# Altium schematic symbol library AST0760MCTRQ.SchLib: 2 symbols
Pins are listed as number, name and electrical type; pins without a type are passive.

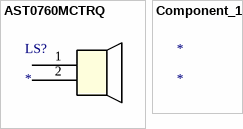
[diagram p0: symbols AST0760MCTRQ to Component_1]

## AST0760MCTRQ
designator LS?
No Description Available; Mfr_Name: Mallory Sonalert; RefDes: RefDes; Type: Type
footprint AST0760_MAL
pins: 1, 2

## Component_1
designator *